# EAGLE library part XBEE-S2C-SMT-TESTHARNESS (library Oles komponentbibliotek)
Test/programming harness for an XBee S2C SMT module using test pins.
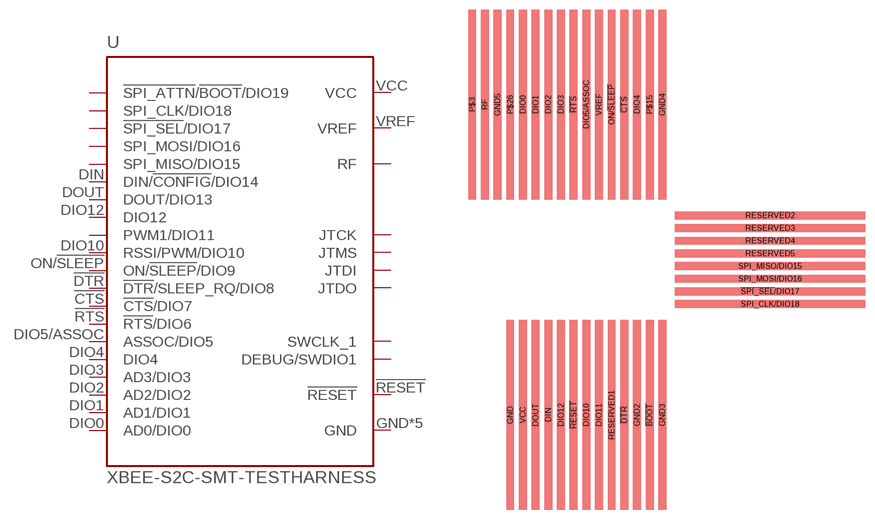
[diagram p31: symbol with the pads of XBEE-S2C-SMT-TESTHARNESS; footprint XBEE-S2C-SMT-TESTHARNESS]

Designator prefix -

## XBEE-S2C-SMT-TESTHARNESS  [XBEE-S2C-SMT-TESTHARNESS]
!BOOT  !SPI_ATTN!/!BOOT!/DIO19  out
!CTS  !CTS!/DIO7
!DTR  !DTR!/SLEEP_RQ/DIO8
!RESET  !RESET  in
!RTS  !RTS!/DIO6
!SPI_SEL!/DIO17  !SPI_SEL!/DIO17  in
DIN  DIN/!CONFIG!/DIO14
DIO0  AD0/DIO0
DIO1  AD1/DIO1
DIO2  AD2/DIO2
DIO3  AD3/DIO3
DIO4  DIO4
DIO5/ASSOC  ASSOC/DIO5
DIO10  RSSI/PWM/DIO10  out
DIO11  PWM1/DIO11
DIO12  DIO12
DOUT  DOUT/DIO13
GND  GND  pwr
GND2  GND  pwr
GND3  GND  pwr
GND4  GND  pwr
GND5  GND  pwr
ON/!SLEEP  ON/!SLEEP!/DIO9  out
RF  RF
SPI_CLK/DIO18  SPI_CLK/DIO18  in
SPI_MISO/DIO15  SPI_MISO/DIO15  out
SPI_MOSI/DIO16  SPI_MOSI/DIO16  in
VCC  VCC  pwr
VREF  VREF  in

## Footprint XBEE-S2C-SMT-TESTHARNESS (pad centres in mm)
smd 1.25 x 30: !BOOT 14,-25; !CTS 10,24; !DTR 10,-25; !RESET 2,-25; !RTS 2,24; DIN -2,-25; DIO0 -6,24; DIO1 -4,24; DIO2 -2,24; DIO3 0,24; DIO4 12,24; DIO5/ASSOC 4,24; DIO10 4,-25; DIO11 6,-25; DIO12 0,-25; DOUT -4,-25; GND -8,-25; GND2 12,-25; GND3 16,-25; GND4 16,24; GND5 -10,24; ON/!SLEEP 8,24; P$3 -14,24; P$15 14,24; P$26 -8,24; RESERVED1 8,-25; RF -12,24; VCC -6,-25; VREF 6,24
smd 30 x 1.25: !SPI_SEL!/DIO17 33,-5.5; RESERVED2 33,6.5; RESERVED3 33,4.5; RESERVED4 33,2.5; RESERVED5 33,0.5; SPI_CLK/DIO18 33,-7.5; SPI_MISO/DIO15 33,-1.5; SPI_MOSI/DIO16 33,-3.5